# Altium footprint library XTAL_32_768MhzOSC_XRCGB32M768F2N10R0.PcbLib: 1 footprints
Each footprint in its own frame and in the unit in brackets; x right, y up, seen from the top. Pads: shape width x height; smd on the part's side, far side on the other; paste and mask are expansions set on the pad; w line width, h text height; cw(c..) or ccw(c..) is an arc to the next point about the centre after c.
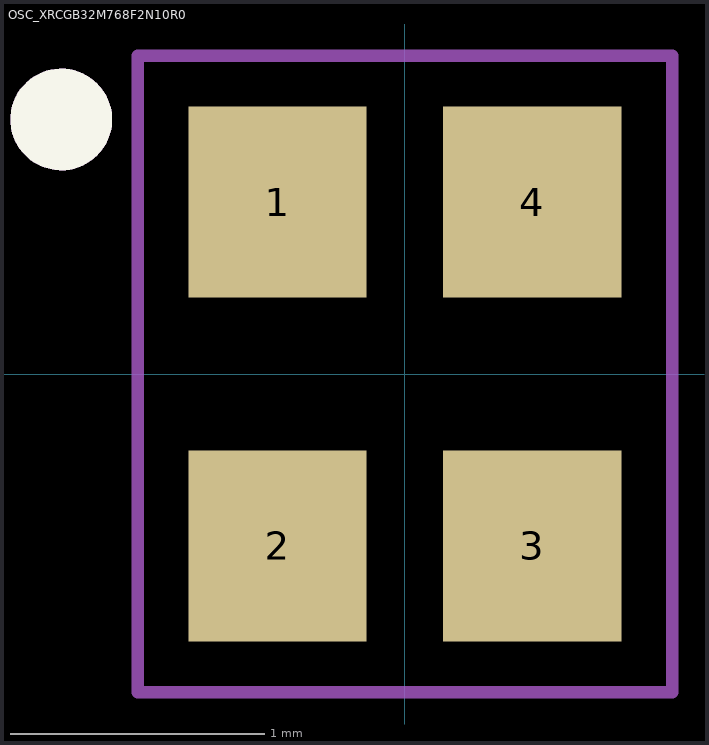
[diagram p0: the footprint, top view; thin cyan lines are the x and y axes]

## OSC_XRCGB32M768F2N10R0 [mm]
pads (4):
  rect 0.7x0.75 smd: 1(-0.5,0.675) 2(-0.5,-0.675) 3(0.5,-0.675) 4(0.5,0.675)
Top Overlay:
  circle w0.2: c-1.35,1 r0.1
Mechanical 13:
  circle w0.2: c-1.35,1 r0.1
Mechanical 15:
  lines w0.05: -1.05,-1.25 -1.05,1.25 1.05,1.25 1.05,-1.25 -1.05,-1.25